# Altium integrated library ECA2AM471B.IntLib: 1 symbol
Pins are listed as number, name and electrical type; pins without a type are passive.

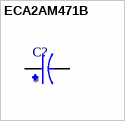
[diagram p0: symbol ECA2AM471B]

## ECA2AM471B
designator C?
CAP ALUM 470UF 20% 100V RADIAL; MF: Panasonic; MP: ECA2AM471B; Check_prices: https://www.snapeda.com/parts/ECA2AM471B/Panasonic/view-part/?ref=eda; SnapEDA_Link: https://www.snapeda.com/parts/ECA2AM471B/Panasonic/view-part/?ref=snap; Availability: In Stock; Value: *; Price: None; Package: RADIAL-2 Panasonic; Purchase-URL: https://pricing.snapeda.com/search/part/ECA2AM471B/?ref=eda
footprint CAPPRD750W80D1600H2500
pins: N, P